# Altium schematic symbol library Schlib1.SchLib: 168 symbols (part 2 of 4)
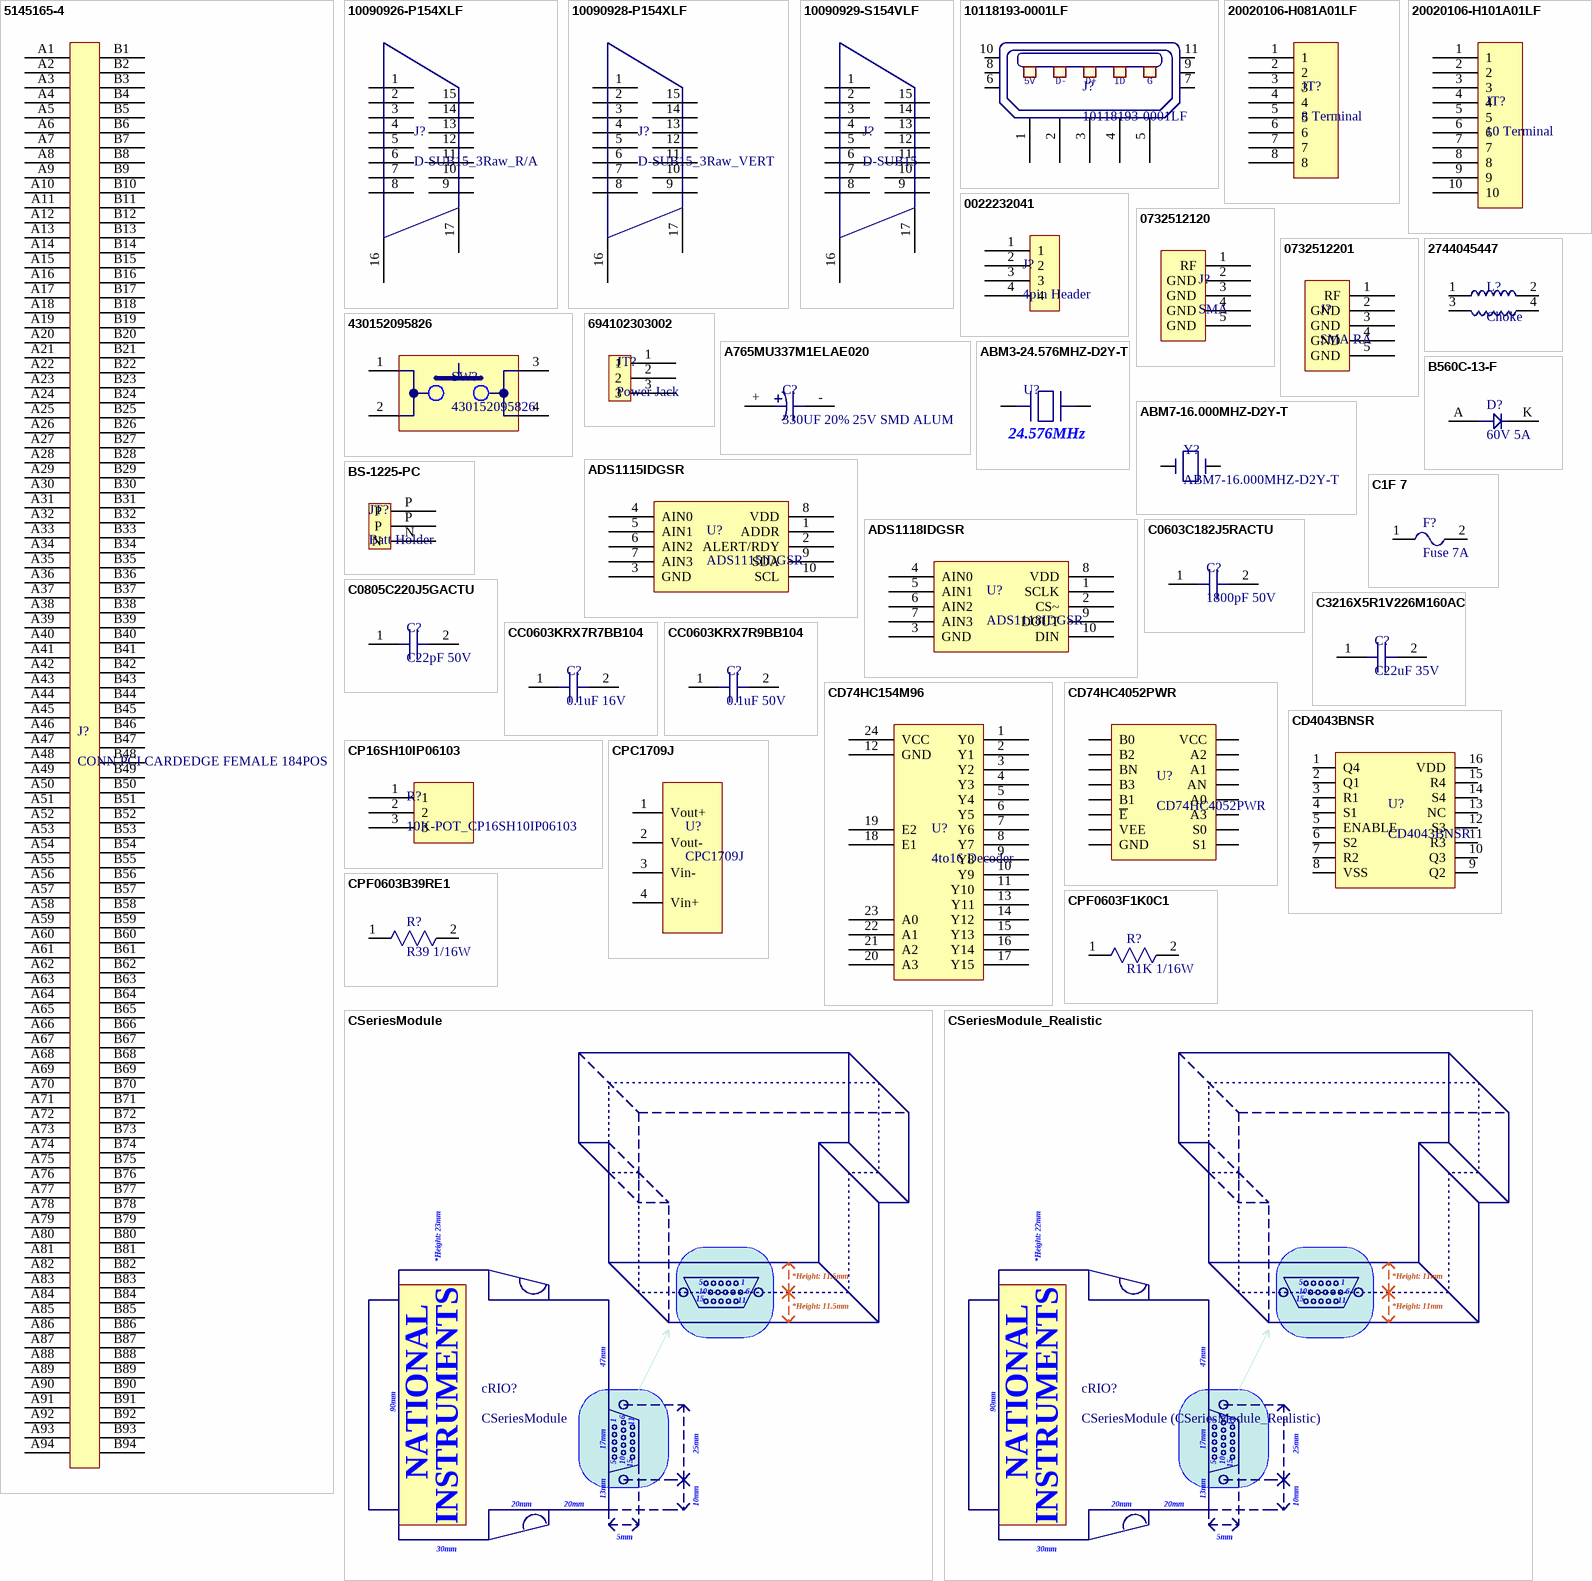
[diagram p6: symbols 5145165-4 to CSeriesModule_Realistic]

## C3216X5R1V226M160AC
designator C?, comment C22uF 35V
CAP CER 22UF 35V X5R 1206; Manufacturer: TDK Corporation; Manufacturer Part Number: C3216X5R1V226M160AC; Tolerance: ±20%; Notification: Current market demand for these product types have resulted in fluctuating and extending lead times. Lead times may differ.; Supplier 1: Digi-Key; RoHS: RoHS Compliant; Category: Capacitors; Stock 1: 22163; Pricing 1: 1=1.2, 10=0.949, 100=0.7116, 500=0.53762, 1000=0.47438 (USD); Packaging: Cut Tape (CT); Part Status: Active; Voltage - Rated: 35V; Temperature Coefficient: X5R; Operating Temperature: -55°C ~ 85°C; Features: Low ESL; Ratings: -; Applications: General Purpose; Failure Rate: -; Mounting Type: Surface Mount, MLCC; Package / Case: 1206 (3216 Metric); Size / Dimension: 0.126" L x 0.063" W (3.20mm x 1.60mm); Height - Seated (Max): -; Thickness (Max): 0.071" (1.80mm); Lead Spacing: -; Lead Style: -; ComponentLink1URL: https://product.tdk.com/info/en/catalog/datasheets/mlcc_commercial_general_en.pdf; ComponentLink1Description: https://product.tdk.com/info/en/catalog/datasheets/mlcc_commercial_general_en.pdf; Supplier Part Number 1: 445-8045-1-ND
footprint C0603
pins: 1, 2

## CC0603KRX7R7BB104
designator C?, comment 0.1uF 16V
CAP CER 0.1UF 16V X7R 0603; Manufacturer: Yageo; Manufacturer Part Number: CC0603KRX7R7BB104; Capacitance: 0.10µF; Tolerance: ±10%; Supplier 1: Digi-Key; RoHS: RoHS Compliant; Category: Capacitors; Stock 1: 1575664; Pricing 1: 1=0.1, 10=0.019, 25=0.0132, 100=0.0085, 250=0.007, 500=0.00598, 1000=0.00466 (USD); Packaging: Cut Tape (CT); Voltage - Rated: 16V; Temperature Coefficient: X7R; Mounting Type: Surface Mount, MLCC; Operating Temperature: -55°C ~ 125°C; Applications: General Purpose; Ratings: -; Package / Case: 0603 (1608 Metric); Size / Dimension: 0.063" L x 0.031" W (1.60mm x 0.80mm); Height - Seated (Max): -; Thickness (Max): 0.035" (0.90mm); Lead Spacing: -; Features: -; Lead Style: -; ComponentLink1URL: http://www.yageo.com/documents/recent/UPY-GPHC_X7R_6.3V-to-50V_13.pdf; ComponentLink1Description: http://www.yageo.com/documents/recent/UPY-GPHC_X7R_6.3V-to-50V_13.pdf; Supplier Part Number 1: 311-1088-1-ND
footprint C0603
pins: 1, 2

## CC0603KRX7R9BB104
designator C?, comment 0.1uF 50V
CAP CER 0.1UF 50V X7R 0603; Manufacturer: Yageo; Manufacturer Part Number: CC0603KRX7R9BB104; Capacitance: 0.10µF; Tolerance: ±10%; Supplier 1: Digi-Key; RoHS: RoHS Compliant; Category: Capacitors; Stock 1: 1899628; Pricing 1: 1=0.1, 10=0.029, 25=0.0204, 100=0.0131, 250=0.01072, 500=0.00918, 1000=0.00715 (USD); Packaging: Cut Tape (CT); Voltage - Rated: 50V; Temperature Coefficient: X7R; Mounting Type: Surface Mount, MLCC; Operating Temperature: -55°C ~ 125°C; Applications: General Purpose; Ratings: -; Package / Case: 0603 (1608 Metric); Size / Dimension: 0.063" L x 0.031" W (1.60mm x 0.80mm); Height - Seated (Max): -; Thickness (Max): 0.035" (0.90mm); Lead Spacing: -; Features: -; Lead Style: -; ComponentLink1URL: http://www.yageo.com/documents/recent/UPY-GPHC_X7R_6.3V-to-50V_13.pdf; ComponentLink1Description: http://www.yageo.com/documents/recent/UPY-GPHC_X7R_6.3V-to-50V_13.pdf; Supplier Part Number 1: 311-1344-1-ND
footprint C0603
pins: 1, 2

## CD74HC154M96
designator U?, comment 4to16 Decoder
IC 4-TO-16 DECODER/DEMUX 24SOIC; Manufacturer: Texas Instruments; Manufacturer Part Number: CD74HC154M96; Circuit: 1 x 4:16; Independent Circuits: 1; Current - Output High, Low: 5.2mA, 5.2mA; Voltage Supply Source: Single Supply; Voltage - Supply: 2 V ~ 6 V; Supplier 1: Digi-Key; RoHS: RoHS Compliant; Category: Integrated Circuits (ICs); Stock 1: 3424; Pricing 1: 1=0.66, 10=0.578, 100=0.442, 500=0.3502, 1000=0.2805 (USD); Packaging: Cut Tape (CT); Type: Decoder/Demultiplexer; Operating Temperature: -55°C ~ 125°C; Mounting Type: Surface Mount; Package / Case: 24-SOIC (0.295", 7.50mm Width); Supplier Device Package: 24-SOIC; ComponentLink1URL: http://www.ti.com/lit/ds/symlink/cd74hc154.pdf; ComponentLink1Description: http://www.ti.com/lit/ds/symlink/cd74hc154.pdf; Supplier Part Number 1: 296-24352-1-ND
footprint SOIC24
pins: 1 Y0, 2 Y1, 3 Y2, 4 Y3, 5 Y4, 6 Y5, 7 Y6, 8 Y7, 9 Y8, 10 Y9, 11 Y10, 12 GND, 13 Y11, 14 Y12, 15 Y13, 16 Y14, 17 Y15, 18 E1, 19 E2, 20 A3, 21 A2, 22 A1, 23 A0, 24 VCC

## CD74HC4052PWR
designator U?
IC MUX/DEMUX DUAL 4X1 16TSSOP; Manufacturer: Texas Instruments; Switch Circuit: SP4T; Multiplexer/Demultiplexer Circuit: 4:1; Number of Circuits: 2; On-State Resistance (Max): 130 Ohm; Channel-to-Channel Matching (&Delta;Ron): 5 Ohm; Voltage - Supply, Single (V+): 2 V ~ 6 V; Voltage - Supply, Dual (V±): ±1 V ~ 5 V; -3db Bandwidth: 185MHz; Channel Capacitance (CS(off), CD(off)): 12pF; Current - Leakage (IS(off)) (Max): 200nA; Supplier 1: Digi-Key; Manufacturer Part Number: CD74HC4052PWR; RoHS: RoHS Compliant; Category: Integrated Circuits (ICs); Stock 1: 27715; Pricing 1: 1=0.54, 10=0.464, 100=0.3461, 500=0.27192, 1000=0.21012 (USD); Packaging: Cut Tape (CT); Part Status: Active; Switch Time (Ton, Toff) (Max): -; Charge Injection: -; Crosstalk: -; Operating Temperature: -55°C ~ 125°C (TA); Package / Case: 16-TSSOP (0.173", 4.40mm Width); Supplier Device Package: 16-TSSOP; ComponentLink1URL: http://www.ti.com/lit/ds/symlink/cd74hc4051.pdf; ComponentLink1Description: http://www.ti.com/lit/ds/symlink/cd74hc4051.pdf; Supplier Part Number 1: 296-17619-1-ND
footprint TSOP65P640X120_HS-17N_CD74HC4052PWR (TSOP, 16-Leads, Body 5,00x4,40mm, Pitch 0,65mm, Thermal Pad 0,00x0,00mm, IPC Medium Density)
pins: 1 B0, 2 B2, 3 BN, 4 B3, 5 B1, 6 ~{E}, 7 VEE, 8 GND, 9 S1, 10 S0, 11 A3, 12 A0, 13 AN, 14 A1, 15 A2, 16 VCC

## CD4043BNSR
designator U?
IC NOR R/S LATCH 3ST QUAD 16SO; Manufacturer: Texas Instruments; Logic Type: S-R Latch; Circuit: 1:1; Output Type: Tri-State; Voltage - Supply: 3 V ~ 18 V; Delay Time - Propagation: 50ns; Current - Output High, Low: 6.8mA, 6.8mA; Supplier 1: Digi-Key; Manufacturer Part Number: CD4043BNSR; RoHS: RoHS Compliant; Category: Integrated Circuits (ICs); Stock 1: 5463; Pricing 1: 1=0.51, 10=0.433, 100=0.323, 500=0.2538, 1000=0.19611 (USD); Packaging: Cut Tape (CT); Part Status: Active; Operating Temperature: -55°C ~ 125°C; Mounting Type: Surface Mount; Package / Case: 16-SOIC (0.209", 5.30mm Width); Supplier Device Package: 16-SO; ComponentLink1URL: http://www.ti.com/lit/ds/symlink/cd4043b.pdf; ComponentLink1Description: http://www.ti.com/lit/ds/symlink/cd4043b.pdf; Supplier Part Number 1: 296-14105-1-ND
footprint SOP127P600-8N_CD4043BNSR (CD4043BNSR)
pins: 1 Q4, 2 Q1, 3 R1, 4 S1, 5 ENABLE, 6 S2, 7 R2, 8 VSS, 9 Q2, 10 Q3, 11 R3, 12 S3, 13 NC, 14 S4, 15 R4, 16 VDD

## CP16SH10IP06103
designator R?, comment 10K-POT_CP16SH10IP06103
POT 10K OHM 1/5W CARBON LINEAR; Manufacturer: TE Connectivity Passive Product; Tolerance: ±20%; Power (Watts): 0.2W, 1/5W; Built in Switch: None; Adjustment Type: Side Adjustment; Temperature Coefficient: ±300ppm/°C; Rotation: 300°; Actuator Type: Knurled; Actuator Length: 1.772" (45.00mm); Actuator Diameter: 0.236" (6.00mm); Bushing Thread: M10 x 0.75; Supplier 1: Digi-Key; Manufacturer Part Number: CP16SH10IP06103; RoHS: RoHS Compliant; Category: Potentiometers, Variable Resistors; Stock: 0; Pricing 1: 500=2.5666 (USD); Packaging: Bulk; Part Status: Active; Resistance (Ohms): 10k; Taper: Linear; Resistive Material: Carbon; Termination Style: PC Pins; Mounting Type: Panel Mount; Size - Body: Rectangular - 0.707" x 0.630" Face x 0.807" H (18.00mm x 16.00mm x 20.50mm); ComponentLink1URL: https://www.te.com/commerce/DocumentDelivery/DDEController?Action=srchrtrv&DocNm=1676003&DocType=Customer+Drawing&DocLang=English; ComponentLink1Description: https://www.te.com/commerce/DocumentDelivery/DDEController?Action=srchrtrv&DocNm=1676003&DocType=Customer+Drawing&DocLang=English; Supplier Part Number 1: CP16SH10IP06103-ND
footprint POT (5mmPitch) (POT (5mmPitch with 1.1mm pin sizes))
pins: 1, 2, 3

## CPC1709J
designator U?
RELAY 60VDC 9A ISOPLUS264; Manufacturer: IXYS Integrated Circuits Division; Circuit: SPST-NO (1 Form A); Output Type: DC; Voltage - Input: 1.2VDC; Supplier 1: Digi-Key; Manufacturer Part Number: CPC1709J; RoHS: RoHS Compliant; Category: Relays; Stock 1: 3365; Pricing 1: 1=6.55, 10=5.895, 25=5.3712, 100=4.847, 250=4.454, 500=4.061, 1000=3.537 (USD); Packaging: Tube; Part Status: Active; Mounting Type: Through Hole; Termination Style: PC Pin; Package / Case: ISOPLUS264™; Supplier Device Package: ISOPLUS264™; ComponentLink1URL: http://www.ixysic.com/home/pdfs.nsf/www/CPC1709.pdf/$file/CPC1709.pdf; ComponentLink1Description: http://www.ixysic.com/home/pdfs.nsf/www/CPC1709.pdf/$file/CPC1709.pdf; Supplier Part Number 1: CLA280-ND
footprint CPC1709
pins: 1 Vout+, 2 Vout-, 3 Vin-, 4 Vin+

## CPF0603B39RE1
designator R?, comment R39 1/16W
RES SMD 39 OHM 0.1% 1/16W 0603; Manufacturer: TE Connectivity AMP Connectors; Manufacturer Part Number: CPF0603B39RE1; Resistance (Ohms): 39; Power (Watts): 0.063W, 1/16W; Temperature Coefficient: ±25ppm/°C; Supplier 1: Digi-Key; RoHS: RoHS Compliant; Category: Resistors; Stock 1: 3104; Pricing 1: 1=0.51, 10=0.362, 25=0.282, 50=0.2386, 100=0.188, 250=0.15908, 500=0.13014 (USD); Packaging: Cut Tape (CT); Tolerance: ±0.1%; Composition: Thin Film; Features: -; Operating Temperature: -55°C ~ 155°C; Package / Case: 0603 (1608 Metric); Supplier Device Package: 0603; Size / Dimension: 0.061" L x 0.031" W (1.55mm x 0.80mm); Height: 0.022" (0.55mm); Number of Terminations: 2; ComponentLink1URL: http://www.te.com/commerce/DocumentDelivery/DDEController?Action=srchrtrv&DocNm=1773200&DocType=DS&DocLang=English; ComponentLink1Description: http://www.te.com/commerce/DocumentDelivery/DDEController?Action=srchrtrv&DocNm=1773200&DocType=DS&DocLang=English; Supplier Part Number 1: A103095CT-ND
footprint R0603
pins: 1, 2

## CPF0603F1K0C1
designator R?, comment R1K 1/16W
RES SMD 1K OHM 1% 1/16W 0603; Manufacturer: TE Connectivity AMP Connectors; Manufacturer Part Number: CPF0603F1K0C1; Power (Watts): 0.063W, 1/16W; Temperature Coefficient: ±50ppm/°C; Supplier 1: Digi-Key; RoHS: RoHS Compliant; Category: Resistors; Stock 1: 39101; Pricing 1: 1=0.13, 10=0.111, 25=0.0804, 50=0.0582, 100=0.0432, 250=0.03316, 500=0.02612 (USD); Packaging: Cut Tape (CT); Resistance (Ohms): 1k; Tolerance: ±1%; Composition: Thin Film; Features: -; Operating Temperature: -55°C ~ 155°C; Package / Case: 0603 (1608 Metric); Supplier Device Package: 0603; Size / Dimension: 0.061" L x 0.031" W (1.55mm x 0.80mm); Height: 0.022" (0.55mm); Number of Terminations: 2; ComponentLink1URL: http://www.te.com/commerce/DocumentDelivery/DDEController?Action=srchrtrv&DocNm=1773200&DocType=DS&DocLang=English; ComponentLink1Description: http://www.te.com/commerce/DocumentDelivery/DDEController?Action=srchrtrv&DocNm=1773200&DocType=DS&DocLang=English; Supplier Part Number 1: A102226CT-ND
footprint R0603
pins: 1, 2

## CSeriesModule
designator cRIO?
footprint CSeriesModule
text: *Height: 23mm; 5; 1; *Height: 11.5mm; 10; 6; 15; 11; 47mm; 90mm; 17mm; 25mm; NATIONAL; 13mm; 20mm; 10mm; INSTRUMENTS; 5mm; 30mm

## CSeriesModule_Realistic
designator cRIO?, comment CSeriesModule (CSeriesModule_Realistic)
CSeriesModule_Realistic
footprint CSeriesModule (Realistic)
text: *Height: 22mm; 5; 1; *Height: 11mm; 10; 6; 15; 11; 47mm; 90mm; 17mm; 25mm; NATIONAL; 13mm; 20mm; 10mm; INSTRUMENTS; 5mm; 30mm

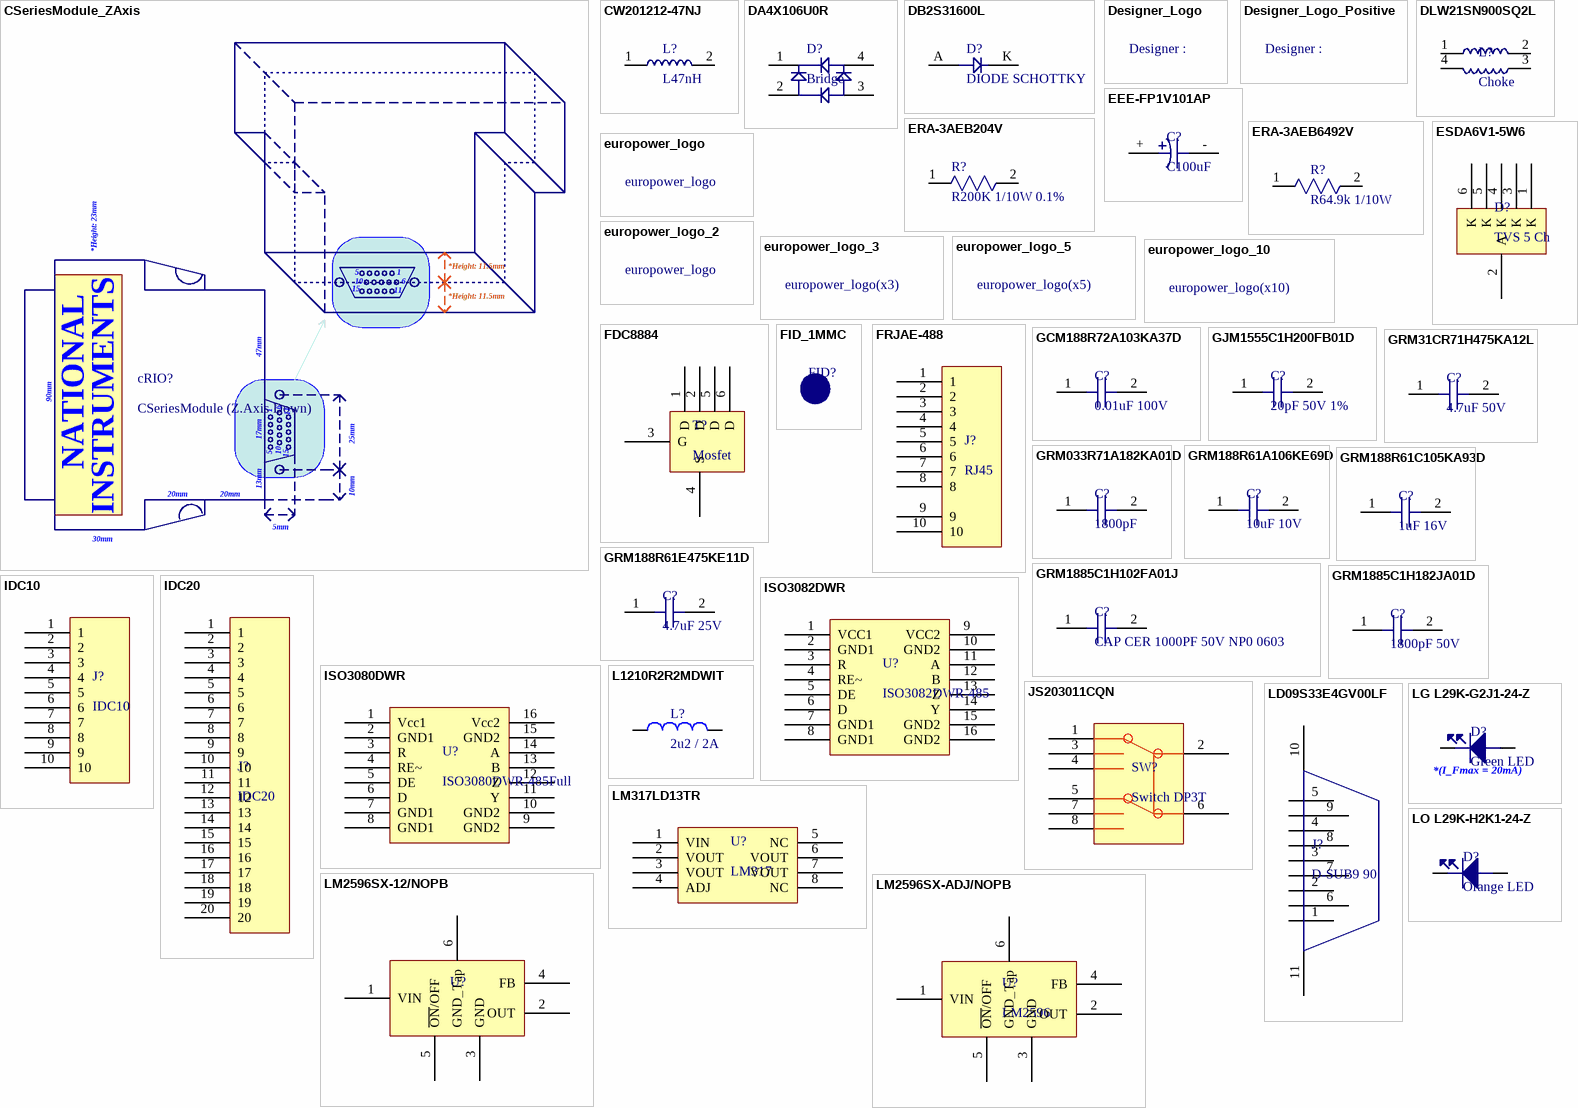
[diagram p2: symbols CSeriesModule_ZAxis to LO L29K-H2K1-24-Z]

## CSeriesModule_ZAxis
designator cRIO?, comment CSeriesModule (Z.Axis Down)
CSeriesModule_ZAxis
footprint CSeriesModule (Z.Axis -12.5mm)
text: *Height: 23mm; 5; 1; *Height: 11.5mm; 10; 6; 15; 11; 47mm; 90mm; 17mm; 25mm; NATIONAL; 13mm; 20mm; 10mm; INSTRUMENTS; 5mm; 30mm

## CW201212-47NJ
designator L?, comment L47nH
FIXED IND 47NH 500MA 150 MOHM; Manufacturer: Bourns Inc.; Manufacturer Part Number: CW201212-47NJ; Type: Wirewound; Material - Core: Ceramic; Tolerance: ±5%; Shielding: Unshielded; Q @ Freq: 60 @ 500MHz; Frequency - Self Resonant: 1.7GHz; Frequency - Test: 200MHz; Supplier 1: Digi-Key; RoHS: RoHS Compliant; Category: Inductors, Coils, Chokes; Stock 1: 2157; Pricing 1: 1=0.28, 10=0.256, 25=0.2272, 50=0.1988, 100=0.1846, 250=0.1704, 500=0.16188, 1000=0.13064 (USD); Packaging: Cut Tape (CT); Inductance: 47nH; Current Rating: 500mA; Current - Saturation: -; DC Resistance (DCR): 150 mOhm; Ratings: -; Operating Temperature: -40°C ~ 125°C; Mounting Type: Surface Mount; Package / Case: 0805 (2012 Metric); Size / Dimension: 0.083" L x 0.059" W (2.10mm x 1.50mm); Height - Seated (Max): 0.059" (1.50mm); ComponentLink1URL: http://www.bourns.com/docs/Product-Datasheets/CW201212.pdf; ComponentLink1Description: http://www.bourns.com/docs/Product-Datasheets/CW201212.pdf; Supplier Part Number 1: CW201212-47NJCT-ND
footprint 47nH
pins: 1, 2

## DA4X106U0R
designator D?, comment Bridge
BRIDGE RECT 80V 100MA MINI4; Manufacturer: Panasonic Electronic Components; Manufacturer Part Number: DA4X106U0R; Diode Type: Single Phase; Supplier 1: Digi-Key; RoHS: RoHS Compliant; Category: Discrete Semiconductor Products; Stock 1: 19903; Pricing 1: 1=0.19, 10=0.16, 25=0.1288, 100=0.1003, 250=0.09744, 500=0.09456, 1000=0.08597 (USD); Packaging: Cut Tape (CT); Voltage - Peak Reverse (Max): 80V; Current - DC Forward (If) (Max): 100mA; Mounting Type: Surface Mount; Package / Case: SC-61AB; Supplier Device Package: Mini4-G4-B; ComponentLink1URL: http://industrial.panasonic.com/www-cgi/jvcr13pz.cgi?E+SC+4+ANA7001+DA4X106U+8+WW; ComponentLink1Description: http://industrial.panasonic.com/www-cgi/jvcr13pz.cgi?E+SC+4+ANA7001+DA4X106U+8+WW; Supplier Part Number 1: DA4X106U0RCT-ND
pins: 1, 2, 3, 4

## DB2S31600L
designator D?, comment DIODE SCHOTTKY
DIODE SCHOTTKY 30V 100MA SSMINI2; Manufacturer: Panasonic Electronic Components; Manufacturer Part Number: DB2S31600L; Voltage - Forward (Vf) (Max) @ If: 550mV @ 100mA; Speed: Small Signal =< 200mA (Io), Any Speed; Reverse Recovery Time (trr): 800ps; Current - Reverse Leakage @ Vr: 15µA @ 30V; Capacitance @ Vr, F: 2pF @ 10V, 1MHz; Supplier 1: Digi-Key; RoHS: RoHS Compliant; Category: Discrete Semiconductor Products; Stock 1: 41622; Pricing 1: 1=0.1, 10=0.046, 25=0.0368, 100=0.0285, 250=0.02768, 500=0.02686, 1000=0.02442 (USD); Packaging: Cut Tape (CT); Diode Type: Schottky; Voltage - DC Reverse (Vr) (Max): 30V; Current - Average Rectified (Io): 100mA; Mounting Type: Surface Mount; Package / Case: SC-79, SOD-523; Supplier Device Package: SSMini2-F5-B; Operating Temperature - Junction: 125°C (Max); ComponentLink1URL: http://industrial.panasonic.com/www-cgi/jvcr13pz.cgi?E+SC+4+BFA7001+DB2S316+8+WW; ComponentLink1Description: http://industrial.panasonic.com/www-cgi/jvcr13pz.cgi?E+SC+4+BFA7001+DB2S316+8+WW; Supplier Part Number 1: DB2S31600LCT-ND
footprint SOD523_3DBody
pins: A 1, K 2

## Designer_Logo
designator Designer?, comment Designer  (value not drawn)  (no BOM)
Designer Logo
footprint Designer_Footprint (Designer_Logo)
text: Designer :

## Designer_Logo_Positive
designator Designer?, comment Designer_Positive  (value not drawn)  (no BOM)
Designer Logo_Positive
footprint Designer_Footprint_Positive (Designer_Logo)
text: Designer :

## DLW21SN900SQ2L
designator L?, comment Choke
CMC 90 OHM 330MA 2 LN SMD; Manufacturer: Murata Electronics North America; Manufacturer Part Number: DLW21SN900SQ2L; Filter Type: Signal Line; Number of Lines: 2; Impedance @ Frequency: 90 Ohm @ 100MHz; DC Resistance (DCR) (Max): 350 mOhm; Voltage Rating - DC: 50V; Supplier 1: Digi-Key; RoHS: RoHS Compliant; Category: Filters; Stock 1: 56102; Pricing 1: 1=0.64, 10=0.568, 25=0.5324, 50=0.4616, 100=0.426, 250=0.40472, 500=0.3692, 750=0.3266, 1000=0.3124 (USD); Packaging: Cut Tape (CT); Inductance @ Frequency: -; Current Rating (Max): 330mA; Voltage Rating - AC: -; Operating Temperature: -40°C ~ 85°C; Ratings: -; Approvals: -; Features: -; Mounting Type: Surface Mount; Size / Dimension: 0.079" L x 0.047" W (2.00mm x 1.20mm); Height (Max): 0.055" (1.40mm); Package / Case: Horizontal, 4 PC Pad; ComponentLink1URL: http://search.murata.co.jp/Ceramy/image/img/PDF/ENG/L0114S0133DLW21S.pdf; ComponentLink1Description: http://search.murata.co.jp/Ceramy/image/img/PDF/ENG/L0114S0133DLW21S.pdf; Supplier Part Number 1: 490-5137-1-ND
footprint MurT choke
pins: 1, 2, 3, 4

## EEE-FP1V101AP
designator C?, comment C100uF
CAP ALUM 100UF 20% 35V SMD; Manufacturer: Panasonic Electronic Components; Manufacturer Part Number: EEE-FP1V101AP; Capacitance: 100µF; ESR (Equivalent Series Resistance): 80 mOhm @ 100kHz; Lifetime @ Temp.: 2000 Hrs @ 105°C; Polarization: Polar; Ripple Current: 552.5mA @ 120Hz; Surface Mount Land Size: 0.327" L x 0.327" W (8.30mm x 8.30mm); Supplier 1: Digi-Key; RoHS: RoHS Compliant; Category: Capacitors; Stock 1: 80949; Pricing 1: 1=1.03, 10=0.858, 25=0.7396, 50=0.6938, 100=0.5478, 250=0.45652 (USD); Packaging: Cut Tape (CT); Tolerance: ±20%; Voltage Rating: 35V; Operating Temperature: -55°C ~ 105°C; Applications: Automotive; Impedance: -; Lead Spacing: -; Size / Dimension: 0.315" Dia (8.00mm); Height - Seated (Max): 0.402" (10.20mm); Mounting Type: Surface Mount; Package / Case: Radial, Can - SMD; ComponentLink1URL: http://industrial.panasonic.com/www-cgi/jvcr13pz.cgi?E+PZ+3+ABA0114+EEEFP1V101AP+7+WW; ComponentLink1Description: http://industrial.panasonic.com/www-cgi/jvcr13pz.cgi?E+PZ+3+ABA0114+EEEFP1V101AP+7+WW; Supplier Part Number 1: PCE4442CT-ND
footprint C_ALu
pins: +, -

## ERA-3AEB204V
designator R?, comment R200K 1/10W 0.1%
RES SMD 200K OHM 0.1% 1/10W 0603; Manufacturer: Panasonic Electronic Components; Manufacturer Part Number: ERA-3AEB204V; Power (Watts): 0.1W, 1/10W; Temperature Coefficient: ±25ppm/°C; Supplier 1: Digi-Key; RoHS: RoHS Compliant; Category: Resistors; Stock 1: 133152; Pricing 1: 1=0.35, 10=0.3, 100=0.1172, 1000=0.04906, 2500=0.04498 (USD); Packaging: Cut Tape (CT); Part Status: Active; Tolerance: ±0.1%; Composition: Thin Film; Features: Automotive AEC-Q200; Operating Temperature: -55°C ~ 155°C; Package / Case: 0603 (1608 Metric); Supplier Device Package: 0603; Size / Dimension: 0.063" L x 0.032" W (1.60mm x 0.80mm); Height - Seated (Max): 0.022" (0.55mm); Failure Rate: -; ComponentLink1URL: https://industrial.panasonic.com/cdbs/www-data/pdf/RDM0000/AOA0000C307.pdf; ComponentLink1Description: https://industrial.panasonic.com/cdbs/www-data/pdf/RDM0000/AOA0000C307.pdf; Supplier Part Number 1: P200KDBCT-ND
footprint R0603 - Thin Film Res
pins: 1, 2

## ERA-3AEB6492V
designator R?, comment R64.9k 1/10W
RES SMD 64.9KOHM 0.1% 1/10W 0603; Manufacturer: Panasonic Electronic Components; Manufacturer Part Number: ERA-3AEB6492V; Resistance (Ohms): 64.9k; Power (Watts): 0.1W, 1/10W; Temperature Coefficient: ±25ppm/°C; Supplier 1: Digi-Key; RoHS: RoHS Compliant; Category: Resistors; Stock 1: 10928; Pricing 1: 1=0.63, 50=0.2494, 100=0.1924, 250=0.14964, 500=0.10546, 1000=0.07695 (USD); Packaging: Cut Tape (CT); Tolerance: ±0.1%; Composition: Thin Film; Features: Automotive AEC-Q200; Operating Temperature: -55°C ~ 155°C; Package / Case: 0603 (1608 Metric); Supplier Device Package: 0603; Size / Dimension: 0.063" L x 0.031" W (1.60mm x 0.80mm); Height: 0.022" (0.55mm); Number of Terminations: 2; ComponentLink1URL: http://media.digikey.com/pdf/Data%20Sheets/Panasonic%20Electronic%20Components/ERA%201A,2A,3A,6A,8A.pdf; ComponentLink1Description: http://media.digikey.com/pdf/Data%20Sheets/Panasonic%20Electronic%20Components/ERA%201A,2A,3A,6A,8A.pdf; Supplier Part Number 1: P64.9KDBCT-ND
footprint R0603
pins: 1, 2

## ESDA6V1-5W6
designator D?, comment TVS 5 Ch
TVS DIODE 3VWM SOT3236; Manufacturer: STMicroelectronics; Manufacturer Part Number: ESDA6V1-5W6; Type: Zener; Unidirectional Channels: 5; Voltage - Reverse Standoff (Typ): 3V; Voltage - Breakdown (Min): 6.1V; Power - Peak Pulse: 100W; Power Line Protection: No; Supplier 1: Digi-Key; RoHS: RoHS Compliant; Category: Circuit Protection; Stock 1: 7867; Pricing 1: 1=0.42, 10=0.339, 100=0.2307, 500=0.17304, 1000=0.12978 (USD); Packaging: Cut Tape (CT); Part Status: Active; Bidirectional Channels: -; Voltage - Clamping (Max) @ Ipp: -; Current - Peak Pulse (10/1000µs): -; Applications: General Purpose; Capacitance @ Frequency: -; Operating Temperature: -40°C ~ 125°C (TJ); Mounting Type: Surface Mount; Package / Case: 6-TSSOP, SC-88, SOT-363; Supplier Device Package: SOT-323-6L; ComponentLink1URL: http://www.st.com/content/ccc/resource/technical/document/datasheet/cd/9b/8d/39/1f/d4/43/ba/CD00064033.pdf/files/CD00064033.pdf/jcr:content/translations/en.CD00064033.pdf; ComponentLink1Description: http://www.st.com/content/ccc/resource/technical/document/datasheet/cd/9b/8d/39/1f/d4/43/ba/CD00064033.pdf/files/CD00064033.pdf/jcr:content/translations/en.CD00064033.pdf; Supplier Part Number 1: 497-6634-1-ND
footprint SOT323
pins: 1 K, 2 A, 3 K, 4 K, 5 K, 6 K

## europower_logo
designator Logo?, comment Logo  (value not drawn)  (no BOM)
Europower Logo
footprint europower_logo

## europower_logo_2
designator Logo?, comment Logo(x2)  (value not drawn)  (no BOM)
Europower Logo_2
footprint Europower_Logo(x2)
text: europower_logo

## europower_logo_3
designator Logo?, comment Logo(x3)  (value not drawn)  (no BOM)
Europower Logo(x3)
footprint Europower_Logo(x3)
text: europower_logo(x3)

## europower_logo_5
designator Logo?, comment Logo(x5)  (value not drawn)  (no BOM)
Europower Logo(x5)
footprint Model Name (Footprint not found)
footprint Europower_Logo(x5)
text: europower_logo(x5)

## europower_logo_10
designator Logo?, comment Logo(x10)  (value not drawn)  (no BOM)
Europower Logo(x10)
footprint Model Name (Footprint not found)
footprint Europower_Logo(x10)
text: europower_logo(x10)

## FDC8884
designator T?, comment Mosfet
MOSFET N-CH 30V 6.5A 6-SSOT; Manufacturer: Fairchild Semiconductor; Manufacturer Part Number: FDC8884; FET Type: MOSFET N-Channel, Metal Oxide; FET Feature: Standard; Current - Continuous Drain (Id) @ 25°C: 6.5A (Ta), 8A (Tc); Rds On (Max) @ Id, Vgs: 23 mOhm @ 6.5A, 10V; Vgs(th) (Max) @ Id: 3V @ 250µA; Gate Charge (Qg) @ Vgs: 7.4nC @ 10V; Input Capacitance (Ciss) @ Vds: 465pF @ 15V; Power - Max: 800mW; Supplier 1: Digi-Key; RoHS: RoHS Compliant; Category: Discrete Semiconductor Products; Stock 1: 15566; Pricing 1: 1=0.45, 10=0.387, 100=0.289, 500=0.227, 1000=0.175 (USD); Packaging: Cut Tape (CT); Part Status: Active; Drain to Source Voltage (Vdss): 30V; Operating Temperature: -55°C ~ 150°C (TJ); Mounting Type: Surface Mount; Package / Case: SOT-23-6 Thin, TSOT-23-6; Supplier Device Package: 6-SSOT; ComponentLink1URL: http://www.fairchildsemi.com/datasheets/FD/FDC8884.pdf; ComponentLink1Description: http://www.fairchildsemi.com/datasheets/FD/FDC8884.pdf; Supplier Part Number 1: FDC8884CT-ND
footprint SOIC6-super
pins: 1 D, 2 D, 3 G, 4 S, 5 D, 6 D

## FID_1MMC
designator FID?  (value not drawn)  (no BOM)
Fiducial 40 mil Diameter, 120 mil Mask
footprint FID_40X120D

## FRJAE-488
designator J?, comment RJ45
CONN MOD JACK 8P8C R/A SHIELDED; Manufacturer: Amphenol Commercial Products; Manufacturer Part Number: FRJAE-488; Number of Positions/Contacts: 8p8c (RJ45, Ethernet); Number of Ports: 1; LED Color: Does Not Contain LED; Tab Direction: Down; Supplier 1: Digi-Key; RoHS: RoHS Compliant; Category: Connectors, Interconnects; Stock 1: 1413; Pricing 1: 1=2.31, 10=2.095, 50=1.881, 100=1.7955, 250=1.62452, 500=1.49626, 1000=1.2825, 2500=1.235 (USD); Packaging: Tray; Part Status: Active; Connector Type: Jack; Number of Rows: 1; Mounting Type: Through Hole; Orientation: 90° Angle (Right); Termination: Solder; Shielding: Shielded; Ratings: -; Features: Board Lock; Ingress Protection: -; Contact Material: Phosphor Bronze; Contact Finish: Gold; Contact Finish Thickness: 50µin (1.27µm); Housing Material: Thermoplastic; Operating Temperature: -55°C ~ 85°C; ComponentLink1URL: https://www.amphenolcanada.com/ProductSearch/drawings/AC/FRJAExxx.pdf; ComponentLink1Description: https://www.amphenolcanada.com/ProductSearch/drawings/AC/FRJAExxx.pdf; Supplier Part Number 1: FRJAE-488-ND
footprint RJ45 RA
pins: 1, 2, 3, 4, 5, 6, 7, 8, 9, 10

## GCM188R72A103KA37D
designator C?, comment 0.01uF 100V
CAP CER 10000PF 100V X7R 0603; Manufacturer: Murata Electronics North America; Manufacturer Part Number: GCM188R72A103KA37D; Tolerance: ±10%; Supplier 1: Digi-Key; RoHS: RoHS Compliant; Category: Capacitors; Stock 1: 79651; Pricing 1: 1=0.1, 10=0.042, 50=0.0228, 100=0.0193, 250=0.01576, 500=0.01348, 1000=0.0105 (USD); Packaging: Cut Tape (CT); Capacitance: 10000pF; Voltage - Rated: 100V; Temperature Coefficient: X7R; Mounting Type: Surface Mount, MLCC; Operating Temperature: -55°C ~ 125°C; Applications: Automotive; Ratings: AEC-Q200; Package / Case: 0603 (1608 Metric); Size / Dimension: 0.063" L x 0.031" W (1.60mm x 0.80mm); Height - Seated (Max): -; Thickness (Max): 0.035" (0.90mm); Lead Spacing: -; Features: -; Lead Style: -; ComponentLink1URL: http://www.murata.com/~/media/webrenewal/support/library/catalog/products/capacitor/mlcc/c03e.ashx; ComponentLink1Description: http://www.murata.com/~/media/webrenewal/support/library/catalog/products/capacitor/mlcc/c03e.ashx; Supplier Part Number 1: 490-4781-1-ND
footprint C0603
pins: 1, 2

## GJM1555C1H200FB01D
designator C?, comment 20pF 50V 1%
CAP CER 20PF 50V C0G/NP0 0402; Manufacturer: Murata Electronics North America; Manufacturer Part Number: GJM1555C1H200FB01D; Temperature Coefficient: C0G, NP0; Supplier 1: Digi-Key; RoHS: RoHS Compliant; Category: Capacitors; Stock 1: 51780; Pricing 1: 1=0.24, 10=0.162, 100=0.0822, 500=0.05626, 1000=0.04977, 2500=0.0476, 5000=0.04327 (USD); Packaging: Cut Tape (CT); Part Status: Active; Tolerance: ±1%; Voltage - Rated: 50V; Operating Temperature: -55°C ~ 125°C; Features: High Q, Low Loss; Ratings: -; Applications: RF, Microwave, High Frequency; Mounting Type: Surface Mount, MLCC; Package / Case: 0402 (1005 Metric); Size / Dimension: 0.039" L x 0.020" W (1.00mm x 0.50mm); Height - Seated (Max): -; Thickness (Max): 0.022" (0.55mm); Lead Spacing: -; Lead Style: -; ComponentLink1URL: http://search.murata.co.jp/Ceramy/image/img/A01X/G101/ENG/GJM1555C1H200FB01-01.pdf; ComponentLink1Description: http://search.murata.co.jp/Ceramy/image/img/A01X/G101/ENG/GJM1555C1H200FB01-01.pdf; Supplier Part Number 1: 490-11204-1-ND
footprint C0402_CAPC1005X06N (Chip Capacitor, 0402pack. 2-Leads, Body 1.00x0.50mm, IPC Medium Density)
pins: 1, 2

## GRM31CR71H475KA12L
designator C?, comment 4.7uF 50V
CAP CER 4.7UF 50V X7R 1206; Manufacturer: Murata Electronics North America; Manufacturer Part Number: GRM31CR71H475KA12L; Capacitance: 4.7µF; Tolerance: ±10%; Supplier 1: Digi-Key; RoHS: RoHS Compliant; Category: Capacitors; Stock 1: 192352; Pricing 1: 1=0.32, 10=0.264, 50=0.1486, 100=0.132, 250=0.099, 500=0.08746, 1000=0.07755 (USD); Packaging: Cut Tape (CT); Part Status: Active; Voltage - Rated: 50V; Temperature Coefficient: X7R; Operating Temperature: -55°C ~ 125°C; Features: -; Ratings: -; Applications: General Purpose; Mounting Type: Surface Mount, MLCC; Package / Case: 1206 (3216 Metric); Size / Dimension: 0.126" L x 0.063" W (3.20mm x 1.60mm); Height - Seated (Max): -; Thickness (Max): 0.071" (1.80mm); Lead Spacing: -; Lead Style: -; ComponentLink1URL: http://www.murata.com/~/media/webrenewal/support/library/catalog/products/capacitor/mlcc/c02e.pdf; ComponentLink1Description: http://www.murata.com/~/media/webrenewal/support/library/catalog/products/capacitor/mlcc/c02e.pdf; Supplier Part Number 1: 490-6521-1-ND
footprint C1206
pins: 1, 2

## GRM033R71A182KA01D
designator C?, comment 1800pF
CAP CER 1800PF 10V X7R 0201; Manufacturer: Murata Electronics North America; Manufacturer Part Number: GRM033R71A182KA01D; Tolerance: ±10%; Supplier 1: Digi-Key; RoHS: RoHS Compliant; Category: Capacitors; Stock 1: 89568; Pricing 1: 1=0.1, 10=0.025, 50=0.0136, 100=0.0116, 250=0.00944, 500=0.00808, 1000=0.0063, 5000=0.00525 (USD); Packaging: Cut Tape (CT); Part Status: Active; Capacitance: 1800pF; Voltage - Rated: 10V; Temperature Coefficient: X7R; Operating Temperature: -55°C ~ 125°C; Features: -; Ratings: -; Applications: General Purpose; Mounting Type: Surface Mount, MLCC; Package / Case: 0201 (0603 Metric); Size / Dimension: 0.024" L x 0.012" W (0.60mm x 0.30mm); Height - Seated (Max): -; Thickness (Max): 0.013" (0.33mm); Lead Spacing: -; Lead Style: -; ComponentLink1URL: http://www.murata.com/~/media/webrenewal/support/library/catalog/products/capacitor/mlcc/c02e.pdf; ComponentLink1Description: http://www.murata.com/~/media/webrenewal/support/library/catalog/products/capacitor/mlcc/c02e.pdf; Supplier Part Number 1: 490-8160-1-ND
pins: 1, 2

## GRM188R61A106KE69D
designator C?, comment 10uF 10V
CAP CER 10UF 10V X5R 0603; Manufacturer: Murata Electronics North America; Manufacturer Part Number: GRM188R61A106KE69D; Capacitance: 10µF; Tolerance: ±10%; Supplier 1: Digi-Key; RoHS: RoHS Compliant; Category: Capacitors; Stock 1: 336029; Pricing 1: 1=0.18, 10=0.125, 50=0.0718, 100=0.0594, 250=0.05, 500=0.04188, 1000=0.03438 (USD); Packaging: Cut Tape (CT); Voltage - Rated: 10V; Temperature Coefficient: X5R; Mounting Type: Surface Mount, MLCC; Operating Temperature: -55°C ~ 85°C; Applications: General Purpose; Ratings: -; Package / Case: 0603 (1608 Metric); Size / Dimension: 0.063" L x 0.031" W (1.60mm x 0.80mm); Height - Seated (Max): -; Thickness (Max): 0.037" (0.95mm); Lead Spacing: -; Features: Derating Recommended; Lead Style: -; ComponentLink1URL: http://www.murata.com/~/media/webrenewal/support/library/catalog/products/capacitor/mlcc/c02e.pdf; ComponentLink1Description: http://www.murata.com/~/media/webrenewal/support/library/catalog/products/capacitor/mlcc/c02e.pdf; Supplier Part Number 1: 490-10474-1-ND
footprint C0603
pins: 1, 2

## GRM188R61C105KA93D
designator C?, comment 1uF 16V
CAP CER 1UF 16V X5R 0603; Manufacturer: Murata Electronics North America; Manufacturer Part Number: GRM188R61C105KA93D; Capacitance: 1µF; Tolerance: ±10%; Supplier 1: Digi-Key; RoHS: RoHS Compliant; Category: Capacitors; Stock 1: 782230; Pricing 1: 1=0.1, 10=0.034, 50=0.0182, 100=0.0154, 250=0.0126, 500=0.01078, 1000=0.0084 (USD); Packaging: Cut Tape (CT); Voltage - Rated: 16V; Temperature Coefficient: X5R; Mounting Type: Surface Mount, MLCC; Operating Temperature: -55°C ~ 85°C; Applications: General Purpose; Ratings: -; Package / Case: 0603 (1608 Metric); Size / Dimension: 0.063" L x 0.031" W (1.60mm x 0.80mm); Height - Seated (Max): -; Thickness (Max): 0.035" (0.90mm); Lead Spacing: -; Features: -; Lead Style: -; ComponentLink1URL: http://www.murata.com/~/media/webrenewal/support/library/catalog/products/capacitor/mlcc/c02e.pdf; ComponentLink1Description: http://www.murata.com/~/media/webrenewal/support/library/catalog/products/capacitor/mlcc/c02e.pdf; Supplier Part Number 1: 490-1536-1-ND
footprint C0603
pins: 1, 2

## GRM188R61E475KE11D
designator C?, comment 4.7uF 25V
CAP CER 4.7UF 25V X5R 0603; Manufacturer: Murata Electronics North America; Manufacturer Part Number: GRM188R61E475KE11D; Capacitance: 4.7µF; Tolerance: ±10%; Supplier 1: Digi-Key; RoHS: RoHS Compliant; Category: Capacitors; Stock 1: 173612; Pricing 1: 1=0.32, 10=0.28, 50=0.17, 100=0.14, 250=0.112, 500=0.102, 1000=0.092 (USD); Packaging: Cut Tape (CT); Voltage - Rated: 25V; Temperature Coefficient: X5R; Mounting Type: Surface Mount, MLCC; Operating Temperature: -55°C ~ 85°C; Applications: General Purpose; Ratings: -; Package / Case: 0603 (1608 Metric); Size / Dimension: 0.063" L x 0.031" W (1.60mm x 0.80mm); Height - Seated (Max): -; Thickness (Max): 0.031" (0.80mm); Lead Spacing: -; Features: -; Lead Style: -; ComponentLink1URL: http://www.murata.com/~/media/webrenewal/support/library/catalog/products/capacitor/mlcc/c02e.pdf; ComponentLink1Description: http://www.murata.com/~/media/webrenewal/support/library/catalog/products/capacitor/mlcc/c02e.pdf; Supplier Part Number 1: 490-7203-1-ND
footprint C0603
pins: 1, 2

## GRM1885C1H102FA01J
designator C?, comment CAP CER 1000PF 50V NP0 0603
Manufacturer: Murata Electronics North America; Manufacturer Part Number: GRM1885C1H102FA01J; Tolerance: ±1%; Temperature Coefficient: C0G, NP0; Supplier 1: Digi-Key; RoHS: RoHS Compliant; Category: Capacitors; Stock 1: 63093; Pricing 1: 1=0.11, 10=0.075, 50=0.0432, 100=0.0356, 250=0.03, 500=0.02512, 1000=0.02063, 5000=0.01744 (USD); Packaging: Cut Tape (CT); Part Status: Active; Capacitance: 1000pF; Voltage - Rated: 50V; Mounting Type: Surface Mount, MLCC; Operating Temperature: -55°C ~ 125°C; Applications: General Purpose; Ratings: -; Package / Case: 0603 (1608 Metric); Size / Dimension: 0.063" L x 0.031" W (1.60mm x 0.80mm); Height - Seated (Max): -; Thickness (Max): 0.035" (0.90mm); Lead Spacing: -; Features: -; Lead Style: -; ComponentLink1URL: http://www.murata.com/~/media/webrenewal/support/library/catalog/products/capacitor/mlcc/c02e.pdf; ComponentLink1Description: http://www.murata.com/~/media/webrenewal/support/library/catalog/products/capacitor/mlcc/c02e.pdf; Supplier Part Number 1: 490-6377-1-ND
footprint C0603
pins: 1, 2

## GRM1885C1H182JA01D
designator C?, comment 1800pF 50V
CAP CER 1800PF 50V NP0 0603; Manufacturer: Murata Electronics North America; Manufacturer Part Number: GRM1885C1H182JA01D; Tolerance: ±5%; Temperature Coefficient: C0G, NP0; Supplier 1: Digi-Key; RoHS: RoHS Compliant; Category: Capacitors; Stock 1: 160842; Pricing 1: 1=0.1, 10=0.072, 50=0.039, 100=0.033, 250=0.027, 500=0.0231, 1000=0.018 (USD); Packaging: Cut Tape (CT); Capacitance: 1800pF; Voltage - Rated: 50V; Mounting Type: Surface Mount, MLCC; Operating Temperature: -55°C ~ 125°C; Applications: General Purpose; Ratings: -; Package / Case: 0603 (1608 Metric); Size / Dimension: 0.063" L x 0.031" W (1.60mm x 0.80mm); Height - Seated (Max): -; Thickness (Max): 0.035" (0.90mm); Lead Spacing: -; Features: -; Lead Style: -; ComponentLink1URL: http://www.murata.com/~/media/webrenewal/support/library/catalog/products/capacitor/mlcc/c02e.pdf; ComponentLink1Description: http://www.murata.com/~/media/webrenewal/support/library/catalog/products/capacitor/mlcc/c02e.pdf; Supplier Part Number 1: 490-1457-1-ND
footprint C0603
pins: 1, 2

## IDC10
designator J?
pins: 1, 2, 3, 4, 5, 6, 7, 8, 9, 10

## IDC20
designator J?
footprint IDC20
pins: 1, 2, 3, 4, 5, 6, 7, 8, 9, 10, 11, 12, 13, 14, 15, 16, 17, 18, 19, 20

## ISO3080DWR
designator U?, comment ISO3080DWR-485Full
DG ISO 2.5KV RS422/RS485 16SOIC; Manufacturer: Texas Instruments; Isolated Power: No; Number of Channels: 3; Inputs - Side 1/Side 2: 2/1; Channel Type: Unidirectional; Voltage - Isolation: 2500Vrms; Common Mode Transient Immunity (Min): 25kV/µs; Data Rate: 200kbps; Voltage - Supply: 3.15 V ~ 5.5 V, 4.5 V ~ 5.5 V; Supplier 1: Digi-Key; Manufacturer Part Number: ISO3080DWR; RoHS: RoHS Compliant; Category: Isolators; Stock 1: 1582; Pricing 1: 1=6.39, 10=5.733, 100=4.7034, 500=4.0014, 1000=2.925 (USD); Packaging: Cut Tape (CT); Part Status: Active; Technology: Capacitive Coupling; Type: RS422, RS485; Propagation Delay tpLH / tpHL (Max): -; Pulse Width Distortion (Max): -; Rise / Fall Time (Typ): -; Operating Temperature: -40°C ~ 85°C; Package / Case: 16-SOIC (0.295", 7.50mm Width); Supplier Device Package: 16-SOIC; ComponentLink1URL: http://www.ti.com/lit/ds/symlink/iso3080.pdf; ComponentLink1Description: http://www.ti.com/lit/ds/symlink/iso3080.pdf; Supplier Part Number 1: 296-41272-1-ND
footprint SOIC127P1030X265-16N (SOIC, 16-Leads, Body 10.30x7.50mm, Pitch 1.27mm, IPC Medium Density)
pins: 1 Vcc1, 2 GND1, 3 R, 4 RE~, 5 DE, 6 D, 7 GND1, 8 GND1, 9 GND2, 10 GND2, 11 Y, 12 Z, 13 B, 14 A, 15 GND2, 16 Vcc2

## ISO3082DWR
designator U?, comment ISO3082DWR-485
DG ISO 2.5KV RS422/RS485 16SOIC; Manufacturer: Texas Instruments; Isolated Power: No; Number of Channels: 3; Inputs - Side 1/Side 2: 2/1; Channel Type: Unidirectional; Voltage - Isolation: 2500Vrms; Common Mode Transient Immunity (Min): 25kV/µs; Data Rate: 200kbps; Voltage - Supply: 3.15 V ~ 5.5 V, 4.5 V ~ 5.5 V; Supplier 1: Digi-Key; Manufacturer Part Number: ISO3082DWR; RoHS: RoHS Compliant; Category: Isolators; Stock 1: 6040; Pricing 1: 1=6.39, 10=5.733, 100=4.7034, 500=4.0014, 1000=2.925 (USD); Packaging: Cut Tape (CT); Technology: Capacitive Coupling; Type: RS422, RS485; Propagation Delay tpLH / tpHL (Max): -; Pulse Width Distortion (Max): -; Rise / Fall Time (Typ): -; Operating Temperature: -40°C ~ 85°C; Package / Case: 16-SOIC (0.295", 7.50mm Width); Supplier Device Package: 16-SOIC; ComponentLink1URL: http://www.ti.com/lit/ds/symlink/iso3082.pdf; ComponentLink1Description: http://www.ti.com/lit/ds/symlink/iso3082.pdf; Supplier Part Number 1: 296-37891-1-ND
footprint SOIC16
pins: 1 VCC1, 2 GND1, 3 R, 4 RE~, 5 DE, 6 D, 7 GND1, 8 GND1, 9 VCC2, 10 GND2, 11 A, 12 B, 13 Z, 14 Y, 15 GND2, 16 GND2

## JS203011CQN
designator SW?, comment Switch DP3T
SWITCH SLIDE DP3T 300MA 6V; Manufacturer: C&K Components; Manufacturer Part Number: JS203011CQN; Contact Timing: Not Specified; Switch Function: On-On-On; Current Rating: 300mA (DC); Actuator Type: Standard; Actuator Length: 2.00mm; Actuator Material: Polyamide (PA46), Nylon 4/6; Electrical Life: 5,000 Cycles; Supplier 1: Digi-Key; RoHS: RoHS Compliant; Category: Switches; Stock 1: 9362; Pricing 1: 1=0.5, 10=0.482, 25=0.4724, 50=0.4222, 100=0.402, 250=0.39196, 500=0.33166, 1000=0.3216, 5000=0.2814 (USD); Packaging: Bulk; Circuit: DP3T; Voltage Rating - AC: -; Voltage Rating - DC: 6V; Contact Material: Copper Alloy; Contact Finish: Silver; Mounting Type: Through Hole; Termination Style: PC Pin; Features: -; Switch Travel: 2.00mm; Operating Temperature: -40°C ~ 85°C; Mechanical Life: -; Operating Force: -; ComponentLink1URL: http://www.ck-components.com/media/1422/js.pdf; ComponentLink1Description: http://www.ck-components.com/media/1422/js.pdf; Supplier Part Number 1: 401-2004-ND
footprint SW3pst
pins: 1, 2, 3, 4, 5, 6, 7, 8

## L1210R2R2MDWIT
designator L?, comment 2u2 / 2A
FIXED IND 2.2UH 2A 80 MOHM SMD; Manufacturer: KEMET; Manufacturer Part Number: L1210R2R2MDWIT; Type: Wirewound; Material - Core: Ferrite; Inductance: 2.2µH; Tolerance: ±20%; Shielding: Unshielded; DC Resistance (DCR): 80 mOhm; Frequency - Self Resonant: 190MHz; Supplier 1: Digi-Key; RoHS: RoHS Compliant; Category: Inductors, Coils, Chokes; Stock: 7987; Pricing 1: 1=0.53, 10=0.466, 25=0.4332, 50=0.3666, 100=0.3332, 250=0.3132, 500=0.27988 (USD); Packaging: Cut Tape (CT); Part Status: Active; Current Rating: 2A; Current - Saturation: -; Q @ Freq: -; Ratings: -; Operating Temperature: -40°C ~ 105°C; Mounting Type: Surface Mount; Package / Case: 1210 (3225 Metric); Supplier Device Package: 1210; Size / Dimension: 0.126" L x 0.098" W (3.20mm x 2.50mm); Height - Seated (Max): 0.106" (2.70mm); ComponentLink1URL: http://www.kemet.com/Lists/ProductCatalog/Attachments/57/F3115.pdf; ComponentLink1Description: http://www.kemet.com/Lists/ProductCatalog/Attachments/57/F3115.pdf; Supplier Part Number 1: 399-9598-1-ND
footprint C1210_IND
pins: 1, 2

## LD09S33E4GV00LF
designator J?, comment D-SUB9 90
DSUB R/A STB 09 SOCKET; Manufacturer: Amphenol FCI; Manufacturer Part Number: LD09S33E4GV00LF; Connector Style: D-Sub; Connector Type: Receptacle, Female Sockets; Number of Positions: 9; Flange Feature: Mating Side, Female Screwlock (4-40); Voltage Rating: 250V; Current Rating: 5A; Supplier 1: Digi-Key; RoHS: RoHS Compliant; Category: Connectors, Interconnects; Stock 1: 1200; Pricing 1: 1=0.95, 10=0.834, 25=0.7848, 50=0.7522, 100=0.7194, 250=0.654, 500=0.5886, 1000=0.5232, 2500=0.47415 (USD); Packaging: Bulk; Number of Rows: 2; Shell Size, Connector Layout: 1 (DE, E); Contact Type: Signal; Mounting Type: Through Hole, Right Angle; Termination: Solder; Features: Board Lock; Shell Material, Finish: Nickel, Tin Plated; Contact Finish: Gold; Contact Finish Thickness: Flash; Ingress Protection: -; Operating Temperature: -55°C ~ 105°C; Housing Material: Thermoplastic; Color: Black; ComponentLink1URL: http://portal.fciconnect.com/Comergent//fci/drawing/10130914.pdf; ComponentLink1Description: http://portal.fciconnect.com/Comergent//fci/drawing/10130914.pdf; Supplier Part Number 1: 609-5192-ND
pins: 1, 2, 3, 4, 5, 6, 7, 8, 9, 10, 11

## LG L29K-G2J1-24-Z
designator D?, comment Green LED
LED GREEN DIFFUSED 0603 SMD; Manufacturer: OSRAM Opto Semiconductors Inc.; Manufacturer Part Number: LG L29K-G2J1-24-Z; Lens Color: White; Millicandela Rating: 3.92mcd; Lens Style/Size: Rectangle with Flat Top, 1.30mm x 0.80mm; Voltage - Forward (Vf) (Typ): 1.7V; Current - Test: 2mA; Viewing Angle: 160°; Wavelength - Dominant: 570nm; Wavelength - Peak: 572nm; Supplier 1: Digi-Key; RoHS: RoHS Compliant; Category: Optoelectronics; Stock: 0; Pricing 1: 1=0.47, 10=0.339, 25=0.2768, 100=0.2215, 250=0.18688, 500=0.15918, 1000=0.12458, 2500=0.1142 (USD); Packaging: Cut Tape (CT); Part Status: Active; Color: Green; Lens Transparency: Diffused; Mounting Type: Surface Mount; Features: -; Package / Case: 0603 (1608 Metric); Supplier Device Package: 0603; Size / Dimension: 1.70mm L x 0.80mm W; Height (Max): 0.65mm; ComponentLink1URL: http://www.osram-os.com/Graphics/XPic0/00167682_0.pdf; ComponentLink1Description: http://www.osram-os.com/Graphics/XPic0/00167682_0.pdf; Supplier Part Number 1: 475-2709-1-ND
footprint LED_0603
pins: 1 Cathode, 2 Anode
text: *(I_Fmax = 20mA)

## LM317LD13TR
designator U?, comment LM317
IC REG LDO ADJ 0.1A 8SO; Manufacturer: STMicroelectronics; Manufacturer Part Number: LM317LD13TR; Regulator Topology: Positive Adjustable; Voltage - Output: 1.2 V ~ 37 V; Current - Output: 100mA; Number of Regulators: 1; Supplier 1: Digi-Key; RoHS: RoHS Compliant; Category: Integrated Circuits (ICs); Stock 1: 11807; Pricing 1: 1=0.41, 10=0.334, 100=0.2277, 500=0.17044, 1000=0.12765 (USD); Packaging: Cut Tape (CT); Voltage - Dropout (Typical): -; Voltage - Input: -; Current - Limit (Min): -; Operating Temperature: 0°C ~ 125°C; Mounting Type: Surface Mount; Package / Case: 8-SOIC (0.154", 3.90mm Width); Supplier Device Package: 8-SO; ComponentLink1URL: http://www.st.com/web/en/resource/technical/document/datasheet/CD00000469.pdf; ComponentLink1Description: http://www.st.com/web/en/resource/technical/document/datasheet/CD00000469.pdf; Supplier Part Number 1: 497-1572-1-ND
footprint SO-8
pins: 1 VIN, 2 VOUT, 3 VOUT, 4 ADJ, 5 NC, 6 VOUT, 7 VOUT, 8 NC

## LM2596SX-12/NOPB
designator U?, comment LM2596 12V Output Fixed ROHSversion  (value not drawn)
IC REG BUCK 12V 3A TO263-5; Manufacturer: Texas Instruments; Manufacturer Part Number: LM2596SX-12/NOPB; Function: Step-Down; Output Configuration: Positive; Number of Outputs: 1; Voltage - Input (Min): 4.5V; Voltage - Input (Max): 40V; Frequency - Switching: 150kHz; Synchronous Rectifier: No; Supplier 1: Digi-Key; RoHS: RoHS non-compliant; Category: Integrated Circuits (ICs); Stock 1: 1147; Pricing 1: 1=4.91, 10=4.413, 100=3.6153 (USD); Packaging: Cut Tape (CT); Part Status: Active; Topology: Buck; Output Type: Fixed; Voltage - Output (Min/Fixed): 12V; Voltage - Output (Max): -; Current - Output: 3A; Operating Temperature: -40°C ~ 125°C (TJ); Mounting Type: Surface Mount; Package / Case: TO-263-6, D²Pak (5 Leads + Tab), TO-263BA; Supplier Device Package: DDPAK/TO-263-5; Base Part Number: LM2596; ComponentLink1URL: http://www.ti.com/lit/ds/symlink/lm2596.pdf; ComponentLink1Description: http://www.ti.com/lit/ds/symlink/lm2596.pdf; Supplier Part Number 1: LM2596SX-12/NOPBCT-ND
footprint TO263 - LM2596 12V Fixed
pins: 1 VIN, 2 OUT, 3 GND, 4 FB, 5 ~{ON}/OFF, 6 GND_Tap

## LM2596SX-ADJ/NOPB
designator U?, comment LM2596
IC REG BUCK ADJ 3A TO263-5; Manufacturer: Texas Instruments; Manufacturer Part Number: LM2596SX-ADJ/NOPB; Function: Step-Down; Output Configuration: Positive; Output Type: Adjustable; Number of Outputs: 1; Voltage - Input (Min): 4.5V; Voltage - Input (Max): 40V; Voltage - Output (Min/Fixed): 1.2V; Voltage - Output (Max): 37V; Frequency - Switching: 150kHz; Synchronous Rectifier: No; Supplier 1: Digi-Key; RoHS: RoHS Compliant; Category: Integrated Circuits (ICs); Stock 1: 3537; Pricing 1: 1=4.91, 10=4.41, 100=3.618 (USD); Packaging: Cut Tape (CT); Part Status: Active; Topology: Buck; Current - Output: 3A; Operating Temperature: -40°C ~ 125°C (TJ); Mounting Type: Surface Mount; Package / Case: TO-263-6, D²Pak (5 Leads + Tab), TO-263BA; Supplier Device Package: DDPAK/TO-263-5; ComponentLink1URL: http://www.ti.com/lit/ds/symlink/lm2596.pdf; ComponentLink1Description: http://www.ti.com/lit/ds/symlink/lm2596.pdf; Supplier Part Number 1: 296-35399-1-ND
footprint TO263
pins: 1 VIN, 2 OUT, 3 GND, 4 FB, 5 ~{ON}/OFF, 6 GND_Tap

## LO L29K-H2K1-24-Z
designator D?, comment Orange LED
LED ORANGE DIFFUSED 0603 SMD; Manufacturer: OSRAM Opto Semiconductors Inc.; Manufacturer Part Number: LO L29K-H2K1-24-Z; Lens Color: White; Millicandela Rating: 6.3mcd; Lens Style/Size: Rectangle with Flat Top, 1.30mm x 0.80mm; Voltage - Forward (Vf) (Typ): 1.8V; Current - Test: 2mA; Viewing Angle: 160°; Wavelength - Dominant: 606nm; Wavelength - Peak: 610nm; Supplier 1: Digi-Key; RoHS: RoHS Compliant; Category: Optoelectronics; Stock: 8950; Pricing 1: 1=0.51, 10=0.359, 25=0.3116, 100=0.2396, 250=0.19468, 500=0.14376, 1000=0.1198, 2500=0.10782 (USD); Packaging: Cut Tape (CT); Part Status: Active; Color: Orange; Lens Transparency: Diffused; Mounting Type: Surface Mount; Features: -; Package / Case: 0603 (1608 Metric); Supplier Device Package: 0603; Size / Dimension: 1.70mm L x 0.80mm W; Height (Max): 0.65mm; ComponentLink1URL: http://www.osram-os.com/Graphics/XPic0/00077105_0.pdf; ComponentLink1Description: http://www.osram-os.com/Graphics/XPic0/00077105_0.pdf; Supplier Part Number 1: 475-2740-1-ND
footprint LED_0603
pins: 1 Cathode, 2 Anode

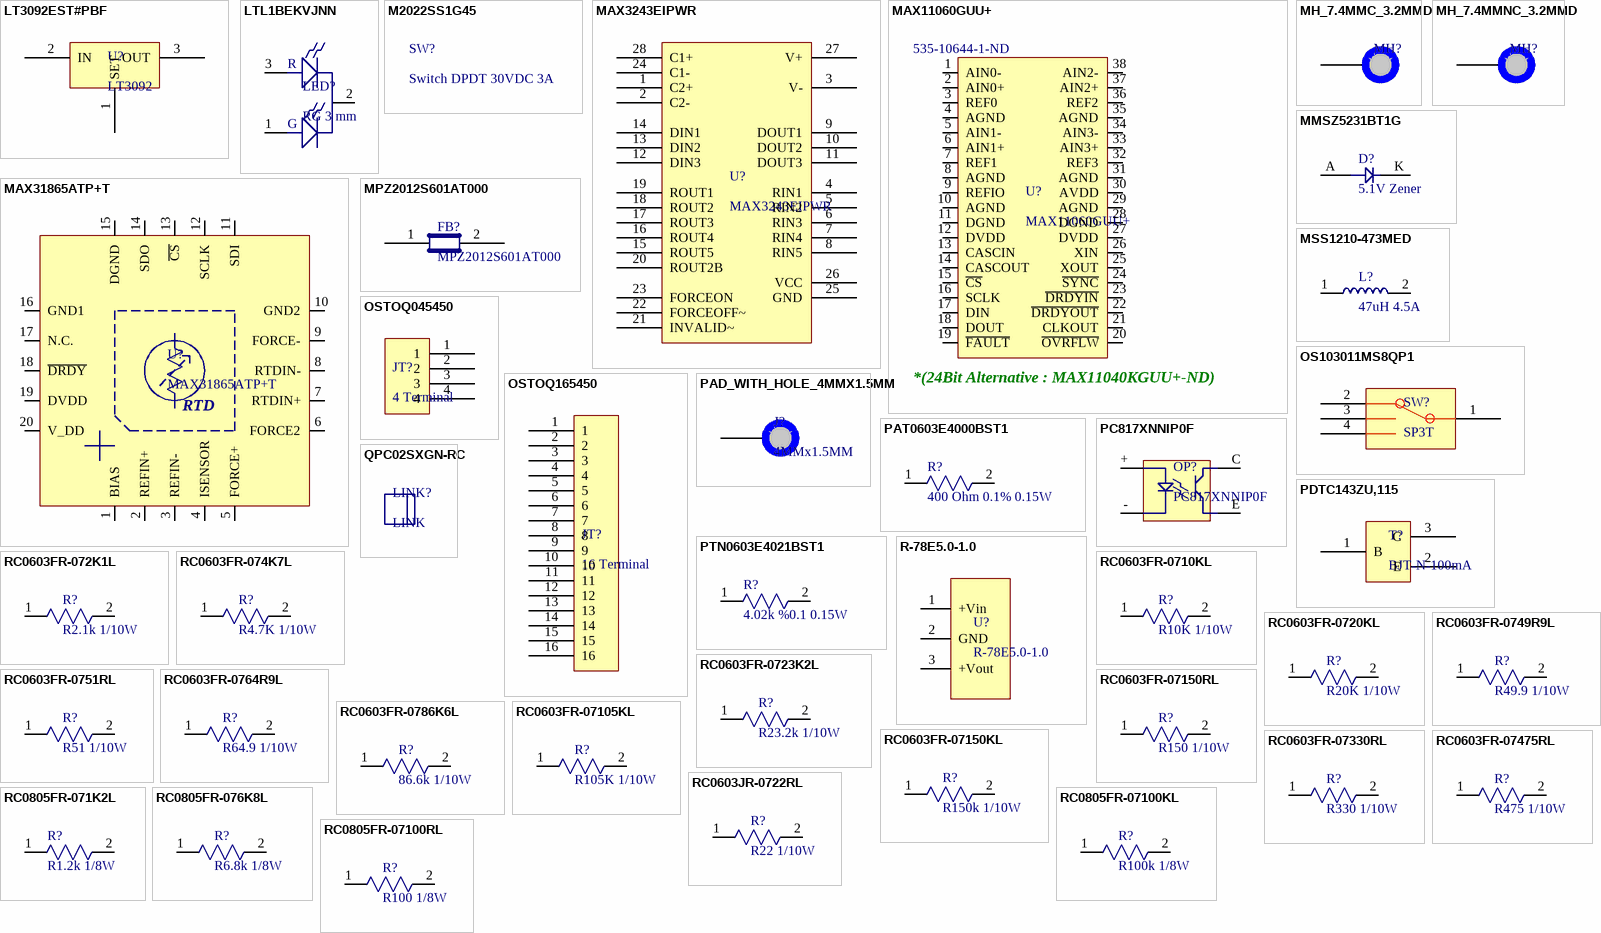
[diagram p3: symbols LT3092EST#PBF to RC0805FR-07100RL]

## LT3092EST#PBF
designator U?, comment LT3092
IC CURRENT SOURCE 1% SOT223-3; Manufacturer: Linear Technology; Manufacturer Part Number: LT3092EST#PBF; Voltage - Input: 1.2 V ~ 40 V; Current - Output: 200mA; Supplier 1: Digi-Key; RoHS: RoHS Compliant; Category: Integrated Circuits (ICs); Stock 1: 9602; Pricing 1: 1=3.74, 25=2.5, 100=2.13 (USD); Packaging: Tube; Function: Current Source; Sensing Method: -; Accuracy: ±1%; Operating Temperature: -40°C ~ 125°C; Mounting Type: Surface Mount; Package / Case: TO-261-4, TO-261AA; Supplier Device Package: SOT-223-3; ComponentLink1URL: http://www.linear.com/docs/27892; ComponentLink1Description: http://www.linear.com/docs/27892; Supplier Part Number 1: LT3092EST#PBF-ND
footprint SOT-223
pins: 1 SET, 2 IN, 3 OUT

## LTL1BEKVJNN
designator LED?, comment RG 3 mm
LED GRN/RED DIFF 3MM ROUND T/H; Manufacturer: Lite-On Inc.; Manufacturer Part Number: LTL1BEKVJNN; Color: Green, Red; Lens Color: White; Lens Transparency: Diffused; Millicandela Rating: 110mcd Green, 110mcd Red; Lens Style/Size: Round with Domed Top, 3.00mm; Voltage - Forward (Vf) (Typ): 2.1V Green, 2V Red; Current - Test: 20mA Green, 20mA Red; Viewing Angle: 45°; Wavelength - Dominant: 572nm Green, 631nm Red; Wavelength - Peak: 575nm Green, 639nm Red; Supplier 1: Digi-Key; RoHS: RoHS Compliant; Category: Optoelectronics; Stock 1: 7604; Pricing 1: 1=0.47, 10=0.332, 25=0.288, 100=0.2216, 250=0.18004, 500=0.13296, 1000=0.1108, 2500=0.09972, 5000=0.09418 (USD); Packaging: Bulk; Mounting Type: Through Hole; Features: -; Package / Case: Radial - 3 Leads; Supplier Device Package: -; Size / Dimension: -; Height (Max): 5.15mm; ComponentLink1URL: http://optoelectronics.liteon.com/upload/download/DS20-2001-645/S_110_LTL1BEKVJNN.pdf; ComponentLink1Description: http://optoelectronics.liteon.com/upload/download/DS20-2001-645/S_110_LTL1BEKVJNN.pdf; Supplier Part Number 1: 160-1939-ND
footprint LEDR/G
pins: 1 G+, 2 -, 3 R+
text: R; G

## M2022SS1G45
designator SW?, comment Switch DPDT 30VDC 3A
SWITCH TOGGLE DPDT 0.4VA 28V; Manufacturer: NKK Switches; Manufacturer Part Number: M2022SS1G45; Switch Function: On-On; Current Rating: 0.4VA (AC/DC); Actuator Type: Standard Round; Actuator Length: 10.50mm; Illumination: Non-Illuminated; Actuator Material: Brass, Chrome Plated; Electrical Life: 50,000 Cycles; Supplier 1: Digi-Key; RoHS: RoHS Compliant; Category: Switches; Stock 1: 109; Pricing 1: 1=7, 10=6.65, 25=6.4752, 50=6.3, 100=6.125, 250=5.775, 500=4.9, 1000=4.6375 (USD); Packaging: Bulk; Part Status: Active; Circuit: DPDT; Illumination Type, Color: -; Illumination Voltage (Nominal): -; Mounting Type: Panel Mount, Right Angle, Vertical; Termination Style: PC Pin; Panel Cutout Dimensions: Circular - 6.50mm Dia; Bushing Thread: 1/4-40; Ingress Protection: -; Features: Epoxy Sealed Terminals; Operating Temperature: -30°C ~ 85°C; ComponentLink1URL: http://www.nkk.com/documents/products/toggle/m/MTogglesAnglePC.pdf; ComponentLink1Description: http://www.nkk.com/documents/products/toggle/m/MTogglesAnglePC.pdf; Supplier Part Number 1: M2022SS1G45-ND

## MAX3243EIPWR
designator U?
IC RS232 3V-5.5V DRVR 28-TSSOP; Manufacturer: Texas Instruments; Number of Drivers/Receivers: 3/5; Duplex: Full; Receiver Hysteresis: 500mV; Data Rate: 500kbps; Voltage - Supply: 3 V ~ 5.5 V; Supplier 1: Digi-Key; Manufacturer Part Number: MAX3243EIPWR; RoHS: RoHS Compliant; Category: Integrated Circuits (ICs); Stock 1: 5217; Pricing 1: 1=1.98, 10=1.775, 100=1.4235, 500=1.17, 1000=0.9685 (USD); Packaging: Cut Tape (CT); Type: Transceiver; Protocol: RS232; Operating Temperature: -40°C ~ 85°C; Mounting Type: Surface Mount; Package / Case: 28-TSSOP (0.173", 4.40mm Width); Supplier Device Package: 28-TSSOP; ComponentLink1URL: http://www.ti.com/lit/ds/symlink/max3243e.pdf; ComponentLink1Description: http://www.ti.com/lit/ds/symlink/max3243e.pdf; Supplier Part Number 1: 296-19810-1-ND
footprint PDSO-28
pins: 1 C2+, 2 C2-, 3 V-, 4 RIN1, 5 RIN2, 6 RIN3, 7 RIN4, 8 RIN5, 9 DOUT1, 10 DOUT2, 11 DOUT3, 12 DIN3, 13 DIN2, 14 DIN1, 15 ROUT5, 16 ROUT4, 17 ROUT3, 18 ROUT2, 19 ROUT1, 20 ROUT2B, 21 INVALID~, 22 FORCEOFF~, 23 FORCEON, 24 C1-, 25 GND, 26 VCC, 27 V+, 28 C1+